# EAGLE library part LPH7677 (library lcd_n3200_lph7677)
LPH7677 Nokia 3210 displayer.
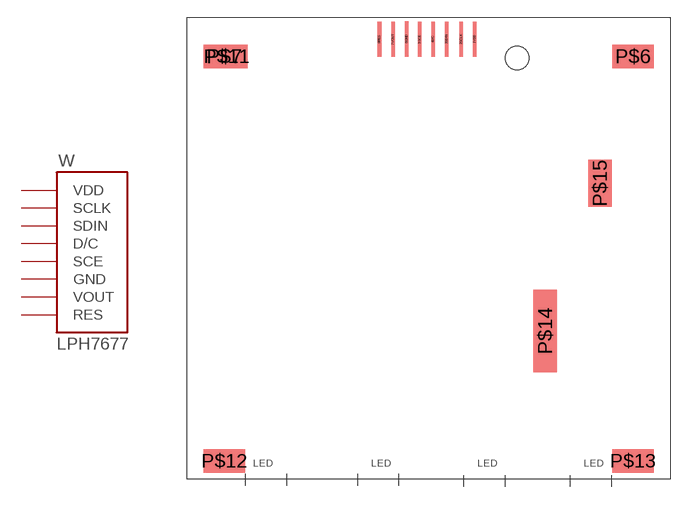
[diagram p0: symbol with the pads of LPH7677; footprint LPH7677]

Designator prefix W

## LPH7677  [LPH7677]
1VDD  VDD  pwr
2SCLK  SCLK
3SDIN  SDIN
4D/C  D/C
5SCE  SCE
6GND  GND  pwr
7VOUT  VOUT
8RES  RES

## Footprint LPH7677 (pad centres in mm)
LPH7677 (N3210)
smd 0.3 x 3: 1VDD 4.794,17.78; 2SCLK 3.667,17.78; 3SDIN 2.426,17.78; 4D/C 1.27,17.78; 5SCE 0.143,17.78; 6GND -0.956,17.808; 7VOUT -2.112,17.78; 8RES -3.267,17.78
smd 3.5 x 2: P$6 18.2,16.33; P$7 -16.4,16.33; P$11 -16.2,16.33; P$12 -16.4,-17.9; P$13 18.2,-17.9
smd 2 x 7: P$14 10.765,-6.9
smd 2 x 4: P$15 15.4,5.6
hole 2 at 8.4,16.2